# EAGLE library part 79109-16 (library con-molex-milli-grid)
RECEPTACAL
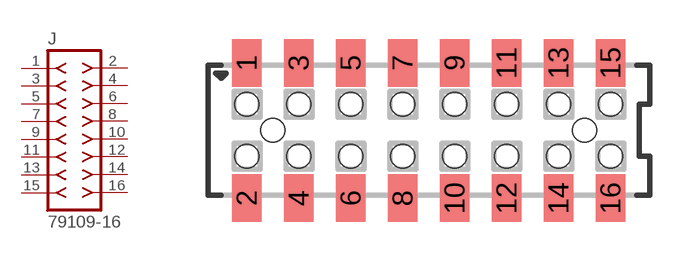
[diagram p165: symbol with the pads of 79109-16; footprint 79109-16]

Designator prefix J

## 79109-16  [79109-16]
1  1  pas
2  2  pas
3  3  pas
4  4  pas
5  5  pas
6  6  pas
7  7  pas
8  8  pas
9  9  pas
10  10  pas
11  11  pas
12  12  pas
13  13  pas
14  14  pas
15  15  pas
16  16  pas

## Footprint 79109-16 (pad centres in mm)
RECEPTACAL SMD Dual Row, Vertical, Pass-Thru
smd 1.12 x 1.83: 1 -7,2.6; 2 -7,-2.6; 3 -5,2.6; 4 -5,-2.6; 5 -3,2.6; 6 -3,-2.6; 7 -1,2.6; 8 -1,-2.6; 9 1,2.6; 10 1,-2.6; 11 3,2.6; 12 3,-2.6; 13 5,2.6; 14 5,-2.6; 15 7,2.6; 16 7,-2.6
hole 0.914 at -6,0
hole 0.914 at -7,1
hole 0.914 at -7,-1
hole 0.914 at -5,-1
hole 0.914 at -5,1
hole 0.914 at -3,-1
hole 0.914 at -3,1
hole 0.914 at 6,0
hole 0.914 at -1,1
hole 0.914 at -1,-1
hole 0.914 at 1,1
hole 0.914 at 1,-1
hole 0.914 at 3,1
hole 0.914 at 3,-1
hole 0.914 at 5,1
hole 0.914 at 5,-1
hole 0.914 at 7,-1
hole 0.914 at 7,1